# Altium schematic symbol library AD9244.Schlib: 1 symbol
Pins are listed as number, name and electrical type; pins without a type are passive.

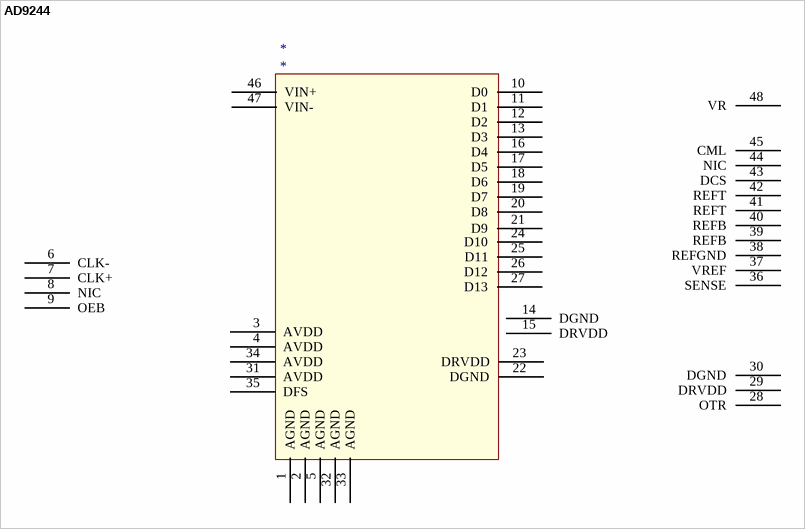
[diagram p0: symbol AD9244]

## AD9244
designator *
pins: 1 AGND (oc), 2 AGND (oc), 3 AVDD (oc), 4 AVDD (oc), 5 AGND (oc), 6 CLK- (oc), 7 CLK+ (oc), 8 NIC (oc), 9 OEB (oc), 10 D0 (oc), 11 D1 (oc), 12 D2 (oc), 13 D3 (oc), 14 DGND (oc), 15 DRVDD (oc), 16 D4 (oc), 17 D5 (oc), 18 D6 (oc), 19 D7 (oc), 20 D8 (oc), 21 D9 (oc), 22 DGND (oc), 23 DRVDD (oc), 24 D10 (oc), 25 D11 (oc), 26 D12 (oc), 27 D13 (oc), 28 OTR (oc), 29 DRVDD (oc), 30 DGND (oc), 31 AVDD (oc), 32 AGND (oc), 33 AGND (oc), 34 AVDD (oc), 35 DFS (oc), 36 SENSE (oc), 37 VREF (oc), 38 REFGND (oc), 39 REFB (oc), 40 REFB (oc), 41 REFT (oc), 42 REFT (oc), 43 DCS (oc), 44 NIC (oc), 45 CML (oc), 46 VIN+ (oc), 47 VIN- (oc), 48 VR (oc)